# EAGLE library part P-RJLSE-40081-01 (library Amphenol-RJLSE-4x0xx-01x)
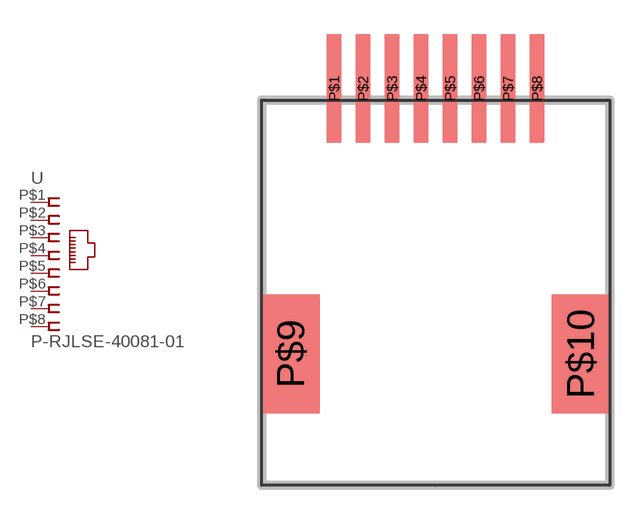
[diagram p0: symbol with the pads of P-RJLSE-4X0XX-01X; footprint P-RJLSE-4X0XX-01X]

Designator prefix -

## P-RJLSE-40081-01  [P-RJLSE-4X0XX-01X]
P$1  1  pas
P$2  2  pas
P$3  3  pas
P$4  4  pas
P$5  5  pas
P$6  6  pas
P$7  7  pas
P$8  8  pas

## Footprint P-RJLSE-4X0XX-01X (pad centres in mm)
smd 0.635 x 4.75: P$1 -4.445,17.399; P$2 -3.175,17.399; P$3 -1.905,17.399; P$4 -0.635,17.399; P$5 0.635,17.399; P$6 1.905,17.399; P$7 3.175,17.399; P$8 4.445,17.399
smd 2.54 x 5.207: P$9 -6.35,5.766; P$10 6.35,5.766